# Altium integrated library BB Analog Comparator.IntLib: 2 symbols
Pins are listed as number, name and electrical type; pins without a type are passive.

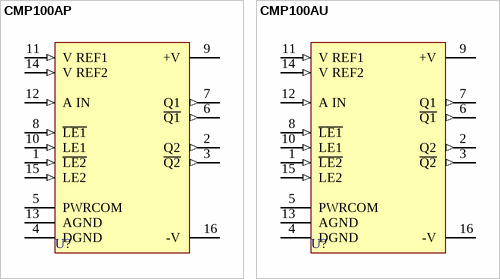
[diagram p0: symbols CMP100AP to CMP100AU]

## CMP100AP
designator U?
High-Speed Window Comparator ATE Pin Receiver; Published: 8-Jun-2000; LatestRevisionDate: 06-Jun-2005; LatestRevisionNote: Stylized 3D Model Added.; DatasheetVersion: 1992; PackageVersion: 1994; PackageReference: ZZ802; Publisher: Altium Limited; PackageDescription: DIP, Plastic; 16 Leads; Row Spacing 7.62 mm; Pitch 2.54 mm; ComponentLink1Description: Manufacturer Link; ComponentLink1URL: http://www.ti.com/
footprint ZZ802 (DIP, Plastic; 16 Leads; Row Spacing 7.62 mm; Pitch 2.54 mm)
3D model C16DIP (DIP, Plastic; 16 Leads; Row Spacing 7.62 mm; Pitch 2.54 mm)
pins: 1 ~{LE2} (in), 2 Q2 (out), 3 ~{Q2} (out), 4 DGND (power), 5 PWRCOM (power), 6 ~{Q1} (out), 7 Q1 (out), 8 ~{LE1} (in), 9 +V (power), 10 LE1 (in), 11 V REF1 (in), 12 A IN (in), 13 AGND (power), 14 V REF2 (in), 15 LE2 (in), 16 -V (power)

## CMP100AU
designator U?
High-Speed Window Comparator ATE Pin Receiver; Published: 8-Jun-2000; LatestRevisionDate: 13-Apr-2006; LatestRevisionNote: IPC-7351 Footprint Added.; DatasheetVersion: 1992; PackageReference: 803A; Publisher: Altium Limited; PackageDescription: 16-Pin Small Outline Integrated Circuit 1.27 mm Pitch; Code_JEDEC: MS-013-AA; Code_IPC: SOIC127P1030-16; ComponentLink1Description: Manufacturer Link; ComponentLink1URL: http://www.ti.com/
footprint 803A_N (SOIC, 16-Leads, Body 10.4x7.5mm, Pitch 1.27mm, IPC Medium Density)
footprint 803A_L (SOIC, 16-Leads, Body 10.4x7.5mm, Pitch 1.27mm, IPC High Density)
footprint 803A_M (SOIC, 16-Leads, Body 10.4x7.5mm, Pitch 1.27mm, IPC Low Density)
3D model SOIC16 (16-Pin Small Outline Integrated Circuit 1.27 mm Pitch)
pins: 1 ~{LE2} (in), 2 Q2 (out), 3 ~{Q2} (out), 4 DGND (power), 5 PWRCOM (power), 6 ~{Q1} (out), 7 Q1 (out), 8 ~{LE1} (in), 9 +V (power), 10 LE1 (in), 11 V REF1 (in), 12 A IN (in), 13 AGND (power), 14 V REF2 (in), 15 LE2 (in), 16 -V (power)